# Altium footprint library Package_DFN_QFN_SON.PcbLib: 78 footprints (part 4 of 5)
Each footprint in its own frame and in the unit in brackets; x right, y up, seen from the top. Pads: shape width x height; smd on the part's side, far side on the other; paste and mask are expansions set on the pad; w line width, h text height; cw(c..) or ccw(c..) is an arc to the next point about the centre after c.
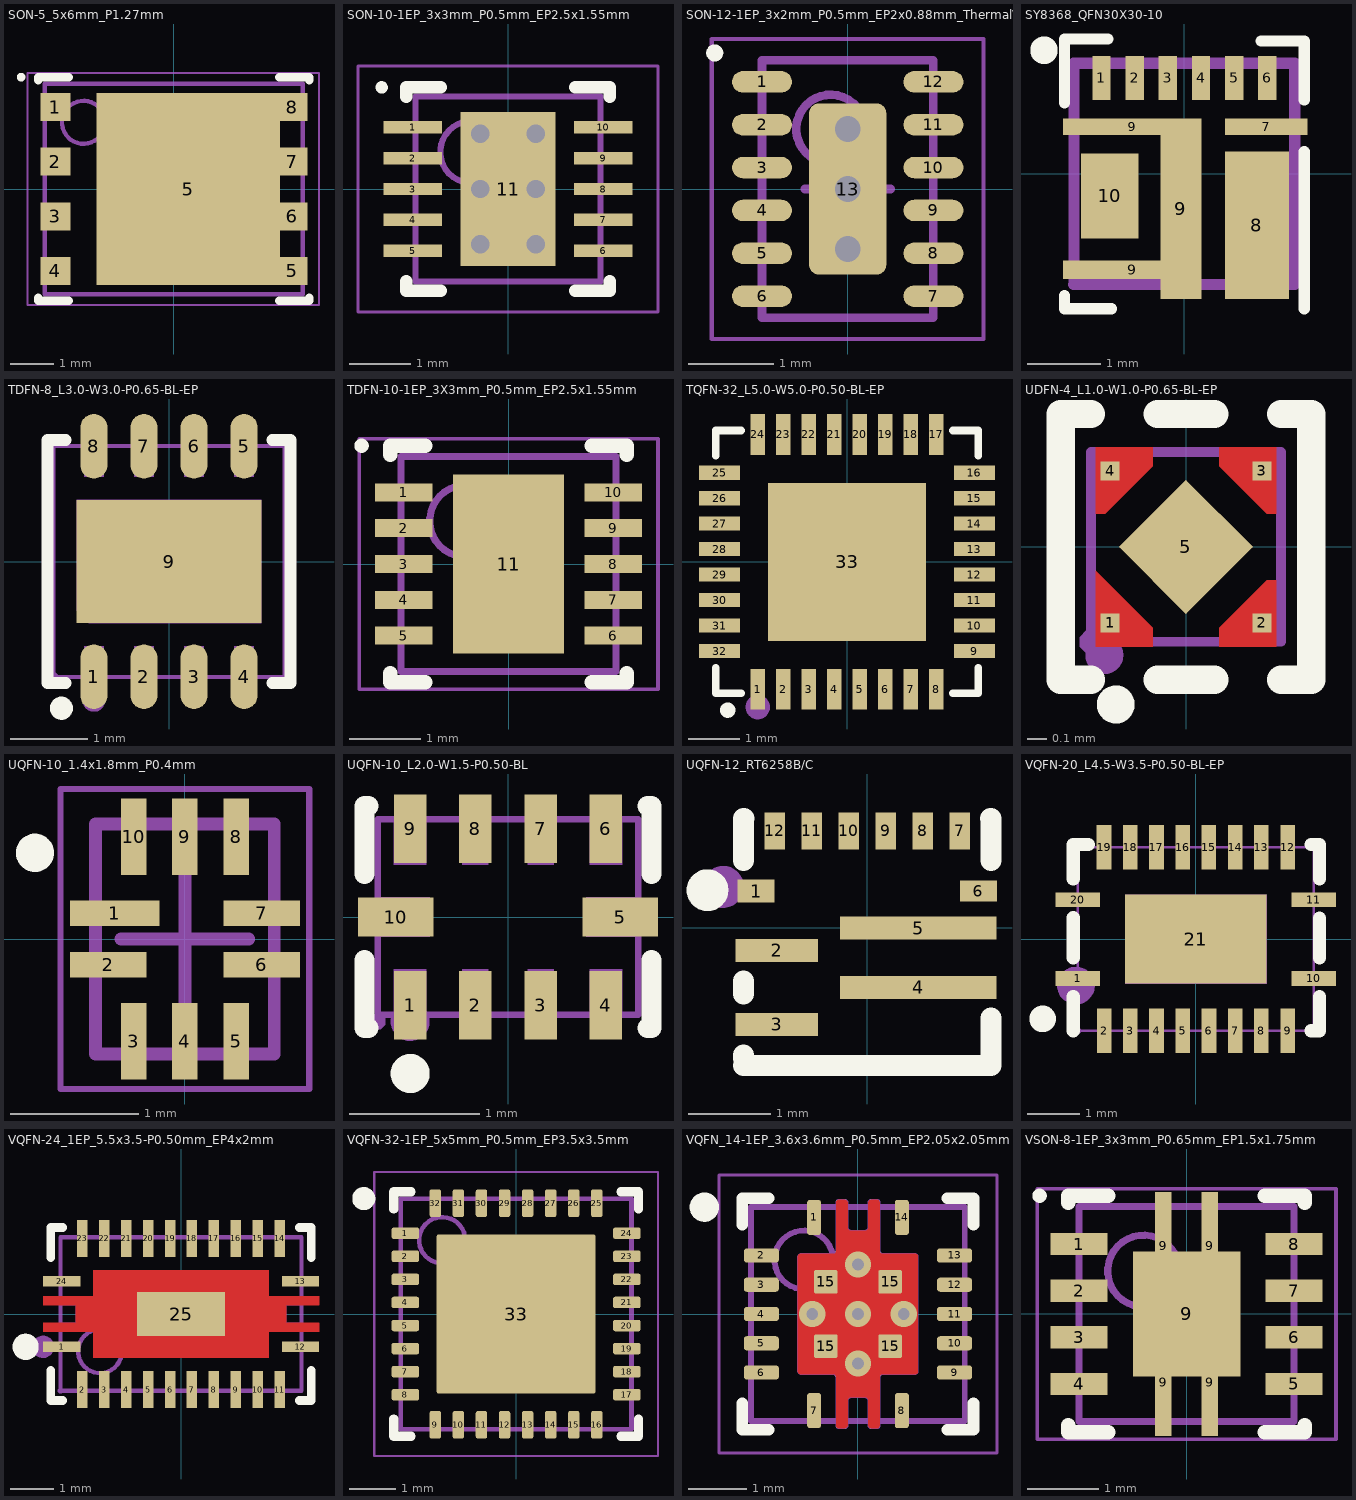
[diagram p3: the footprints below, top view; thin cyan lines are the x and y axes]

## SON-5_5x6mm_P1.27mm [mm] "SON, 8-Leads, Body 4.90x6.00mm, Pitch 1.27mm, Thermal Pad 2.50x1.55mm, IPC Medium Density"
height 1
pads (9):
  rect 0.7x0.65 smd: 1(-2.752,1.905) 2(-2.752,0.635) 3(-2.752,-0.635) 4(-2.752,-1.905) 5(2.752,-1.905) 6(2.752,-0.635) 7(2.752,0.635) 8(2.752,1.905)
  rect 4.27x4.46 smd: 5(0.337,0)
Top Overlay:
  circle w0.1: c-3.55,2.6 r0.05
  lines w0.2: -3.15,-2.53 -3.15,-2.6 -2.45,-2.6 ; -3.15,2.53 -3.15,2.6 -2.45,2.6 ; 2.45,-2.6 3.15,-2.6 3.15,-2.53 ; 2.45,2.6 3.15,2.6 3.15,2.53
Mechanical 13:
  circle w0.1: c-2.1,1.55 r0.5
  lines w0.1: -3,-2.45 3,-2.45 3,2.45 -3,2.45 -3,-2.45
Mechanical 15:
  lines w0.05: -3.4,-2.7 3.375,-2.7 3.375,2.7 -3.4,2.7 -3.4,-2.7
  lines w0.1: -0.5,0 0.5,0 ; 0,-0.5 0,0.5
3D body "SON127P600X100_HS-9N.step": height 1, standoff 0, extent -3.001,-2.45 3.001,2.45

## SON-10-1EP_3x3mm_P0.5mm_EP2.5x1.55mm [mm] "SON, 10-Leads, Body 3.00x3.00mm, Pitch 0.50mm, Thermal Pad 2.50x1.55mm, IPC Low Density"
height 0.75
pads (11):
  rect 0.95x0.2 smd: 1(-1.55,1) 2(-1.55,0.5) 3(-1.55,0) 4(-1.55,-0.5) 5(-1.55,-1) 6(1.55,-1) 7(1.55,-0.5) 8(1.55,0) 9(1.55,0.5) 10(1.55,1)
  rect 1.55x2.5 smd: 11(0,0)
via -0.45,0 diameter 0.5 hole 0.3
via -0.45,-0.9 diameter 0.5 hole 0.3
via 0.45,0 diameter 0.5 hole 0.3
via 0.45,-0.9 diameter 0.5 hole 0.3
via -0.45,0.9 diameter 0.5 hole 0.3
via 0.45,0.9 diameter 0.5 hole 0.3
Top Overlay:
  circle w0.1: c-2.05,1.65 r0.05
  lines w0.2: -1.65,-1.5 -1.65,-1.65 -1.09,-1.65 ; -1.65,1.5 -1.65,1.65 -1.09,1.65 ; 1.09,-1.65 1.65,-1.65 1.65,-1.5 ; 1.09,1.65 1.65,1.65 1.65,1.5
Mechanical 13:
  circle w0.1: c-0.6,0.6 r0.5
  lines w0.1: -1.5,-1.5 1.5,-1.5 1.5,1.5 -1.5,1.5 -1.5,-1.5
Mechanical 15:
  lines w0.05: -2.435,-2 2.435,-2 2.435,2 -2.435,2 -2.435,-2
  lines w0.1: -0.5,0 0.5,0 ; 0,-0.5 0,0.5
3D body "SON50P300X75_HS-11M.step": height 0.75, standoff 0, extent -1.501,-1.5 1.501,1.5

## SON-12-1EP_3x2mm_P0.5mm_EP2x0.88mm_ThermalVias [mm] "SON, 12-Leads, Body 3.00x2.00mm, Pitch 0.50mm, Thermal Pad 2.00x0.88mm, IPC Medium Density"
height 0.8
pads (13):
  oval 0.7x0.25 smd mask+0.07: 1(-1,1.25) 2(-1,0.75) 3(-1,0.25) 4(-1,-0.25) 5(-1,-0.75) 6(-1,-1.25) 7(1,-1.25) 8(1,-0.75) 9(1,-0.25) 10(1,0.25) 11(1,0.75) 12(1,1.25)
  rrect25% 0.9x2 smd mask+0.07: 13(0,0)
via 0,-0.7 diameter 0.5 hole 0.3
via 0,0.7 diameter 0.5 hole 0.3
via 0,0 diameter 0.5 hole 0.3
Top Overlay:
  circle w0.1: c-1.552,1.587 r0.05
Mechanical 13:
  circle w0.1: c-0.2,0.7 r0.4
  lines w0.1: -1,-1.5 1,-1.5 1,1.5 -1,1.5 -1,-1.5
Mechanical 15:
  lines w0.05: -1.585,-1.75 1.585,-1.75 1.585,1.75 -1.585,1.75 -1.585,-1.75
  lines w0.1: -0.5,0 0.5,0 ; 0,-0.5 0,0.5
3D body "SON50P200X80_HS-13N.step": height 0.8, standoff 0, extent -1,-1.5 1,1.5

## SY8368_QFN30X30-10 [mm]
pads (12):
  rect 0.25x0.6 smd: 1(-1.125,1.3) 2(-0.675,1.3) 3(-0.225,1.3) 4(0.225,1.3) 5(0.675,1.3) 6(1.125,1.3)
  rect 1.12x0.225 smd: 7(1.11,0.638)
  rect 0.87x2 smd: 8(0.983,-0.7)
  rect 1.88x0.25 smd: 9(-0.71,-1.3)
  rect 1.88x0.225 smd: 9(-0.71,0.638)
  rect 0.555x2.45 smd: 9(-0.047,-0.475)
  rect 0.775x1.15 smd: 10(-1.012,-0.3)
Top Overlay:
  circle w0.3: c-1.905,1.676 r0.036
  lines w0.152: -1.626,-1.651 -1.626,-1.829 -0.991,-1.829 ; -1.626,0.965 -1.626,1.803 ; -1.626,1.829 -1.041,1.829 ; 1.041,1.803 1.626,1.803 1.626,1 ; 1.626,-1.829 1.626,0.3
Mechanical 7:
  lines w0.152: -1.5,-1.5 1.5,-1.5 ; -1.5,1.5 1.5,1.5 ; -1.497,-1.5 -1.497,1.5 ; 1.497,-1.5 1.497,1.5
3D body: height 0.6, standoff 0, extent -1.5,-1.5 1.5,1.5

## TDFN-8_L3.0-W3.0-P0.65-BL-EP [mm]
pads (9):
  oval 0.35x0.84 smd paste+0 mask+0.051: 1(-0.975,-1.495) 2(-0.325,-1.495) 3(0.325,-1.495) 4(0.975,-1.495) 5(0.975,1.495) 6(0.325,1.495) 7(-0.325,1.495) 8(-0.975,1.495)
  rect 2.4x1.6 smd paste+0 mask+0.051: 9(0,0)
Top Overlay:
  circle w0.15: c-1.397,-1.905 r0.075
  lines w0.152: -1.341,-1.576 -1.576,-1.576 -1.576,1.576 -1.341,1.576 ; 1.341,-1.576 1.576,-1.576 1.576,1.576 1.341,1.576
Mechanical 6:
  circle w0.15: c-0.975,-1.8 r0.075
Mechanical 15:
  region: -1.44,-1.5 -1.44,-1.475 -1.475,-1.44 -1.525,-1.44 -1.56,-1.475 -1.56,-1.5 -1.56,-1.525 -1.525,-1.56 -1.475,-1.56 -1.44,-1.525 -1.44,-1.5
  region: -1.1,-1.5 -1.1,-1.1 -0.85,-1.1 -0.85,-1.5
  region: -0.45,-1.5 -0.45,-1.1 -0.2,-1.1 -0.2,-1.5
  region: 0.2,-1.5 0.2,-1.1 0.45,-1.1 0.45,-1.5
  region: 0.85,-1.5 0.85,-1.1 1.1,-1.1 1.1,-1.5
  region: 0.85,1.5 0.85,1.1 1.1,1.1 1.1,1.5
  region: 0.2,1.5 0.2,1.1 0.45,1.1 0.45,1.5
  region: -0.45,1.5 -0.45,1.1 -0.2,1.1 -0.2,1.5
  region: -1.1,1.5 -1.1,1.1 -0.85,1.1 -0.85,1.5
  region: -1.2,-0.64 -1.2,0.8 1.2,0.8 1.2,-0.8 -1.04,-0.8
  lines w0.051: -1.5,-1.5 -1.5,1.5 1.5,1.5 1.5,-1.5 -1.5,-1.5
3D body "U1.stp": height 0.81, standoff 0, extent -1.5,-1.51 1.5,1.51

## TDFN-10-1EP_3X3mm_P0.5mm_EP2.5x1.55mm [mm] "SON, 10-Leads, Body 3.00x3.00mm, Pitch 0.50mm, Thermal Pad 2.50x1.55mm, IPC Medium Density"
height 0.8
pads (11):
  rect 0.8x0.25 smd: 1(-1.46,1) 2(-1.46,0.5) 3(-1.46,0) 4(-1.46,-0.5) 5(-1.46,-1) 6(1.46,-1) 7(1.46,-0.5) 8(1.46,0) 9(1.46,0.5) 10(1.46,1)
  rect 1.55x2.5 smd: 11(0,0)
Top Overlay:
  circle w0.1: c-2.05,1.65 r0.05
  lines w0.2: -1.65,-1.525 -1.65,-1.65 -1.16,-1.65 ; -1.65,1.525 -1.65,1.65 -1.16,1.65 ; 1.16,-1.65 1.65,-1.65 1.65,-1.525 ; 1.16,1.65 1.65,1.65 1.65,1.525
Mechanical 13:
  circle w0.1: c-0.6,0.6 r0.5
  lines w0.1: -1.5,-1.5 1.5,-1.5 1.5,1.5 -1.5,1.5 -1.5,-1.5
Mechanical 15:
  lines w0.05: -2.085,-1.75 2.085,-1.75 2.085,1.75 -2.085,1.75 -2.085,-1.75
  lines w0.1: -0.5,0 0.5,0 ; 0,-0.5 0,0.5
3D body "SON50P300X80_HS-11N.step": height 0.8, standoff 0, extent -1.58,-1.5 1.58,1.5

## TQFN-32_L5.0-W5.0-P0.50-BL-EP [mm]
pads (33):
  rect 0.28x0.8 smd: 1(-1.75,-2.5) 2(-1.25,-2.5) 3(-0.75,-2.5) 4(-0.25,-2.5) 5(0.25,-2.5) 6(0.75,-2.5) 7(1.25,-2.5) 8(1.75,-2.5) 17(1.75,2.5) 18(1.25,2.5) 19(0.75,2.5) 20(0.25,2.5) 21(-0.25,2.5) 22(-0.75,2.5) 23(-1.25,2.5) 24(-1.75,2.5)
  rect 0.8x0.28 smd: 9(2.5,-1.75) 10(2.5,-1.25) 11(2.5,-0.75) 12(2.5,-0.25) 13(2.5,0.25) 14(2.5,0.75) 15(2.5,1.25) 16(2.5,1.75) 25(-2.5,1.75) 26(-2.5,1.25) 27(-2.5,0.75) 28(-2.5,0.25) 29(-2.5,-0.25) 30(-2.5,-0.75) 31(-2.5,-1.25) 32(-2.5,-1.75)
  rect 3.1x3.1 smd: 33(0,0)
Top Overlay:
  circle w0.15: c-2.34,-2.91 r0.075
  lines w0.152: -2.576,-2.08 -2.576,-2.576 -2.08,-2.576 ; -2.576,2.08 -2.576,2.576 -2.08,2.576 ; 2.08,-2.576 2.576,-2.576 2.576,-2.08 ; 2.08,2.576 2.576,2.576 2.576,2.08
Mechanical 15:
  circle w0.24: c-1.75,-2.85 r0.12

## UDFN-4_L1.0-W1.0-P0.65-BL-EP [mm]
pads (5):
  rect 0.1x0.1 smd mask+0: 1(-0.4,-0.4) 2(0.4,-0.4) 3(0.4,0.4) 4(-0.4,0.4)
  rect 0.5x0.5 smd rot 45 paste+0 mask+0.051: 5(0,0)
Top Layer:
  region: -0.175,-0.525 -0.475,-0.525 -0.475,-0.125 -0.175,-0.425
  region: 0.175,0.525 0.475,0.525 0.475,0.175 0.425,0.175 0.175,0.425
  region: -0.475,0.175 -0.475,0.525 -0.175,0.525 -0.175,0.475 -0.175,0.425 -0.425,0.175
  region: 0.475,-0.175 0.475,-0.525 0.175,-0.525 0.175,-0.425 0.425,-0.175
Top Overlay:
  circle w0.1: c-0.37,-0.83 r0.05
  lines w0.15: -0.501,-0.7 -0.66,-0.7 -0.66,0.7 -0.501,0.7 ; -0.149,-0.7 0.149,-0.7 ; -0.149,0.7 0.149,0.7 ; 0.501,-0.7 0.66,-0.7 0.66,0.7 0.501,0.7
Top Paste:
  region: 0.175,0.525 0.475,0.525 0.475,0.175 0.425,0.175 0.175,0.425
  region: 0.475,-0.175 0.475,-0.525 0.175,-0.525 0.175,-0.425 0.425,-0.175
  region: -0.175,-0.525 -0.475,-0.525 -0.475,-0.125 -0.175,-0.425
  region: -0.475,0.175 -0.475,0.525 -0.175,0.525 -0.175,0.475 -0.175,0.425 -0.425,0.175
Mechanical 6:
  circle w0.1: c-0.43,-0.57 r0.05
Mechanical 15:
  region: -0.44,-0.5 -0.44,-0.475 -0.475,-0.44 -0.525,-0.44 -0.56,-0.475 -0.56,-0.5 -0.56,-0.525 -0.525,-0.56 -0.475,-0.56 -0.44,-0.525 -0.44,-0.5
  region: -0.34,0 0,0.34 0.339,0 0,-0.339
  region: 0.2,0.5 0.45,0.5 0.45,0.28 0.36,0.28 0.2,0.43
  region: 0.2,-0.5 0.45,-0.5 0.45,-0.28 0.36,-0.28 0.2,-0.43
  region: -0.44,0.25 -0.44,0.5 -0.22,0.5 -0.22,0.41 -0.37,0.25
  region: -0.2,-0.5 -0.45,-0.5 -0.45,-0.28 -0.36,-0.28 -0.2,-0.43
  lines w0.051: -0.5,-0.5 -0.5,0.5 0.5,0.5 0.5,-0.5 -0.5,-0.5
3D body "U1.stp": height 0.61, standoff 0, extent -0.51,-0.51 0.51,0.51

## UQFN-10_1.4x1.8mm_P0.4mm [mm] "PQFN, 10-Leads, Body 1.40x1.80mm, Pitch 0.40mm, IPC Medium Density"
height 0.55
pads (10):
  rect 0.7x0.2 smd: 1(-0.55,0.2)
  rect 0.6x0.2 smd: 2(-0.6,-0.2) 6(0.6,-0.2) 7(0.6,0.2)
  rect 0.2x0.6 smd: 3(-0.4,-0.8) 4(0,-0.8) 5(0.4,-0.8) 8(0.4,0.8) 9(0,0.8) 10(-0.4,0.8)
Top Overlay:
  circle w0.2: c-1.175,0.675 r0.05
Mechanical 13:
  lines w0.1: -0.7,-0.9 0.7,-0.9 0.7,0.9 -0.7,0.9 -0.7,-0.9
Mechanical 15:
  lines w0.05: -0.975,-1.175 0.975,-1.175 0.975,1.175 -0.975,1.175 -0.975,-1.175
  lines w0.1: -0.5,0 0.5,0 ; 0,-0.5 0,0.5
3D body "PQFN40P140X180X55-10N.step": height 0.55, standoff 0, extent -0.7,-0.9 0.7,0.9

## UQFN-10_L2.0-W1.5-P0.50-BL [mm]
pads (10):
  rect 0.25x0.525 smd paste+0 mask+0.051: 1(-0.75,-0.675) 2(-0.25,-0.675) 3(0.25,-0.675) 4(0.75,-0.675) 6(0.75,0.675) 7(0.25,0.675) 8(-0.25,0.675) 9(-0.75,0.675)
  rect 0.58x0.3 smd paste+0 mask+0.051: 5(0.86,0) 10(-0.86,0)
Top Overlay:
  circle w0.15: c-0.75,-1.2 r0.075
  lines w0.152: -1.1,-0.33 -1.1,-0.85 -1.07,-0.85 ; -1.1,0.33 -1.1,0.85 -1.07,0.85 ; 1.07,-0.85 1.1,-0.85 1.1,-0.33 ; 1.07,0.85 1.1,0.85 1.1,0.33
Mechanical 6:
  circle w0.15: c-0.75,-0.8 r0.075
Mechanical 15:
  region: -0.94,-0.8 -0.94,-0.775 -0.975,-0.74 -1.025,-0.74 -1.06,-0.775 -1.06,-0.8 -1.06,-0.825 -1.025,-0.86 -0.975,-0.86 -0.94,-0.825 -0.94,-0.8
  region: -0.35,0.75 -0.15,0.75 -0.15,0.4 -0.35,0.4
  region: 0.15,0.75 0.35,0.75 0.35,0.4 0.15,0.4
  region: 0.15,-0.4 0.35,-0.4 0.35,-0.75 0.15,-0.75
  region: -0.35,-0.4 -0.15,-0.4 -0.15,-0.75 -0.35,-0.75
  region: 0.625,-0.4 0.875,-0.4 0.875,-0.75 0.625,-0.75
  region: -0.875,-0.4 -0.625,-0.4 -0.625,-0.75 -0.875,-0.75
  region: -0.875,0.75 -0.625,0.75 -0.625,0.4 -0.875,0.4
  region: 0.625,0.75 0.875,0.75 0.875,0.4 0.625,0.4
  region: 0.6,0.15 1,0.15 1,-0.15 0.6,-0.15
  region: -1,0.15 -0.6,0.15 -0.6,-0.15 -1,-0.15
  lines w0.051: -1,-0.75 -1,0.75 1,0.75 1,-0.75 -1,-0.75
3D body "U1.stp": height 0.62, standoff 0, extent -1.01,-0.76 1.01,0.76

## UQFN-12_RT6258B/C [mm]
pads (12):
  rect 0.45x0.28 smd: 1(-1.35,0.445)
  rect 1x0.28 smd: 2(-1.1,-0.275) 3(-1.1,-1.175)
  rect 1.9x0.28 smd: 4(0.62,-0.725) 5(0.62,-0.005)
  rect 0.45x0.25 smd: 6(1.35,0.445)
  rect 0.25x0.45 smd: 7(1.125,1.175) 8(0.675,1.175) 9(0.225,1.175) 10(-0.225,1.175) 11(-0.675,1.175) 12(-1.125,1.175)
Top Overlay:
  circle w0.254: c-1.94,0.455 r0.127
  lines w0.254: -1.5,-1.675 1.5,-1.675 1.5,-1.096 ; -1.5,-1.588 -1.5,-1.546 ; -1.5,-0.804 -1.5,-0.646 ; -1.5,0.816 -1.5,1.325 -1.496,1.325 ; 1.496,1.325 1.5,1.325 1.5,0.816
Mechanical 15:
  circle w0.254: c-1.75,0.495 r0.127
3D body "11111.stp": height 0.55, standoff 0, extent -1.5,-1.68 1.5,1.32

## VQFN-20_L4.5-W3.5-P0.50-BL-EP [mm]
pads (21):
  rect 0.85x0.28 smd paste+0 mask+0.051: 1(-2.25,-0.752) 10(2.25,-0.752) 11(2.25,0.748) 20(-2.25,0.75)
  rect 0.28x0.85 smd paste+0 mask+0.051: 2(-1.749,-1.75) 3(-1.248,-1.75) 4(-0.749,-1.75) 5(-0.248,-1.75) 6(0.251,-1.75) 7(0.752,-1.75) 8(1.251,-1.75) 9(1.752,-1.75) 12(1.752,1.75) 13(1.251,1.75) 14(0.75,1.748) 15(0.25,1.748) 16(-0.25,1.748) 17(-0.75,1.748) 18(-1.25,1.748) 19(-1.75,1.748)
  rect 2.7x1.7 smd paste+0 mask+0.051: 21(0,-0.002)
Top Overlay:
  circle w0.254: c-2.921,-1.524 r0.127
  lines w0.254: -2.338,-1.753 -2.338,-1.098 ; -2.338,-0.356 -2.338,0.404 ; -2.338,1.146 -2.338,1.803 -2.046,1.803 ; 2.198,-1.753 2.361,-1.753 2.361,-1.098 ; 2.198,1.803 2.361,1.803 2.361,1.144 ; 2.361,-0.356 2.361,0.402
Mechanical 6:
  circle w0.36: c-2.286,-0.889 r0.18
Mechanical 15:
  region: -2.19,-1.75 -2.19,-1.725 -2.225,-1.69 -2.275,-1.69 -2.31,-1.725 -2.31,-1.75 -2.31,-1.775 -2.275,-1.81 -2.225,-1.81 -2.19,-1.775 -2.19,-1.75
  region: -1.35,-0.852 -1.35,0.848 1.35,0.848 1.35,-0.852
  region: -1.629,-1.75 -1.869,-1.75 -1.869,-1.35 -1.629,-1.35
  region: -1.128,-1.75 -1.368,-1.75 -1.368,-1.35 -1.128,-1.35
  region: -0.629,-1.75 -0.869,-1.75 -0.869,-1.35 -0.629,-1.35
  region: -0.128,-1.75 -0.368,-1.75 -0.368,-1.35 -0.128,-1.35
  region: 0.371,-1.75 0.131,-1.75 0.131,-1.35 0.371,-1.35
  region: 0.872,-1.75 0.632,-1.75 0.632,-1.35 0.872,-1.35
  region: 1.371,-1.75 1.131,-1.75 1.131,-1.35 1.371,-1.35
  region: 1.872,-1.75 1.632,-1.75 1.632,-1.35 1.872,-1.35
  region: -1.872,1.746 -1.632,1.746 -1.632,1.346 -1.872,1.346
  region: -1.371,1.746 -1.131,1.746 -1.131,1.346 -1.371,1.346
  region: -0.872,1.746 -0.632,1.746 -0.632,1.346 -0.872,1.346
  region: -0.371,1.746 -0.131,1.746 -0.131,1.346 -0.371,1.346
  region: 0.128,1.746 0.368,1.746 0.368,1.346 0.128,1.346
  region: 0.629,1.746 0.869,1.746 0.869,1.346 0.629,1.346
  region: 1.128,1.746 1.368,1.746 1.368,1.346 1.128,1.346
  region: 1.629,1.746 1.869,1.746 1.869,1.346 1.629,1.346
  region: -2.248,0.629 -2.248,0.869 -1.848,0.869 -1.848,0.629
  region: -2.248,-0.874 -2.248,-0.634 -1.848,-0.634 -1.848,-0.874
  region: 2.248,0.87 2.248,0.63 1.848,0.63 1.848,0.87
  region: 2.248,-0.631 2.248,-0.871 1.848,-0.871 1.848,-0.631
  lines w0.051: -2.25,-1.75 2.25,-1.75 2.25,1.75 -2.25,1.75 -2.25,-1.75
3D body "U1.stp": height 1, standoff -0.02, extent -2.235,-1.76 2.285,1.76

## VQFN-24_1EP_5.5x3.5-P0.50mm_EP4x2mm [mm]
pads (25):
  rect 0.85x0.24 smd mask+0.051: 1(-2.725,-0.75) 12(2.725,-0.75) 13(2.725,0.75) 24(-2.725,0.75)
  rect 0.24x0.85 smd mask+0.051: 2(-2.25,-1.725) 3(-1.75,-1.725) 4(-1.25,-1.725) 5(-0.75,-1.725) 6(-0.25,-1.725) 7(0.25,-1.725) 8(0.75,-1.725) 9(1.25,-1.725) 10(1.75,-1.725) 11(2.25,-1.725) 14(2.25,1.725) 15(1.75,1.725) 16(1.25,1.725) 17(0.75,1.725) 18(0.25,1.725) 19(-0.25,1.725) 20(-0.75,1.725) 21(-1.25,1.725) 22(-1.75,1.725) 23(-2.25,1.725)
  rect 2x1 smd paste-100: 25(0,0)
Top Layer:
  region: -3.15,0.4 -3.15,0.2 -2.4,0.2 -2.4,-0.2 -3.15,-0.2 -3.15,-0.4 -2,-0.4 -2,-1 2,-1 2,-0.4 3.15,-0.4 3.15,-0.2 2.4,-0.2 2.4,0.2 3.15,0.2 3.15,0.4 2,0.4 2,1 -2,1 -2,0.4
Top Overlay:
  lines w0.2: -2.975,-1.29 -2.975,-1.975 -2.7,-1.975 ; -2.975,1.29 -2.975,1.975 -2.7,1.975 ; 2.7,-1.975 2.975,-1.975 2.975,-1.29 ; 2.7,1.975 2.975,1.975 2.975,1.29
  lines w0.3: -3.55,-0.6 ccw(c-3.549,-0.75) -3.547,-0.6
Top Paste:
  region: 3.15,-0.4 3.15,-0.2 2.4,-0.2 2.4,0.2 3.15,0.2 3.15,0.4 2.125,0.4 2.125,-0.4
  region: -3.15,-0.4 -3.15,-0.2 -2.4,-0.2 -2.4,0.2 -3.15,0.2 -3.15,0.4 -2.125,0.4 -2.125,-0.4
  region: -0.145,0.145 -1.465,0.145 -1.465,0.965 -0.145,0.965
  region: 0.155,0.965 1.475,0.965 1.475,0.145 0.155,0.145
  region: 0.155,-0.155 1.475,-0.155 1.475,-0.975 0.155,-0.975
  region: -0.145,-0.975 -1.465,-0.975 -1.465,-0.155 -0.145,-0.155
Mechanical 6:
  circle w0.254: c-3.15,-0.75 r0.127
Mechanical 13:
  circle w0.1: c-1.85,-0.85 r0.5
  lines w0.1: -2.75,-1.75 2.75,-1.75 2.75,1.75 -2.75,1.75 -2.75,-1.75
Mechanical 15:
  drawing of 30 lines, arcs and shapes, not listed
3D body "QFN50P350X550X100_HS-29N.step": height 1, standoff 0, extent -2.8,-1.8 2.8,1.8

## VQFN-32-1EP_5x5mm_P0.5mm_EP3.5x3.5mm [mm] "QFN, 32-Leads, Body 5.00x5.00mm, Pitch 0.50mm, Thermal Pad 3.50x3.50mm, IPC Medium Density"
height 1
pads (33):
  rrect40% 0.6x0.25 smd mask+0.07: 1(-2.4,1.75) 2(-2.4,1.25) 3(-2.4,0.75) 4(-2.4,0.25) 5(-2.4,-0.25) 6(-2.4,-0.75) 7(-2.4,-1.25) 8(-2.4,-1.75) 17(2.4,-1.75) 18(2.4,-1.25) 19(2.4,-0.75) 20(2.4,-0.25) 21(2.4,0.25) 22(2.4,0.75) 23(2.4,1.25) 24(2.4,1.75)
  rrect40% 0.25x0.6 smd mask+0.07: 9(-1.75,-2.4) 10(-1.25,-2.4) 11(-0.75,-2.4) 12(-0.25,-2.4) 13(0.25,-2.4) 14(0.75,-2.4) 15(1.25,-2.4) 16(1.75,-2.4) 25(1.75,2.4) 26(1.25,2.4) 27(0.75,2.4) 28(0.25,2.4) 29(-0.25,2.4) 30(-0.75,2.4) 31(-1.25,2.4) 32(-1.75,2.4)
  rrect3% 3.45x3.45 smd paste-3 mask+0.07: 33(0,0)
Top Overlay:
  circle w0.25: c-3.3,2.5 r0.125
  lines w0.2: -2.65,-2.275 -2.65,-2.65 -2.275,-2.65 ; -2.65,2.275 -2.65,2.65 -2.275,2.65 ; 2.275,-2.65 2.65,-2.65 2.65,-2.275 ; 2.275,2.65 2.65,2.65 2.65,2.275
Top Paste:
  region: 0.15,-0.1 0.14,-0.1 0.122,-0.108 0.108,-0.122 0.1,-0.14 0.1,-0.15 0.1,-1.54 0.1,-1.55 0.108,-1.568 0.122,-1.582 0.14,-1.59 0.15,-1.59 1.54,-1.59 1.55,-1.59 1.568,-1.582 1.582,-1.568 1.59,-1.55 1.59,-1.54 1.59,-0.15 1.59,-0.14 1.582,-0.122 1.568,-0.108 1.55,-0.1 1.54,-0.1
  region: -0.15,-0.1 -0.14,-0.1 -0.122,-0.108 -0.108,-0.122 -0.1,-0.14 -0.1,-0.15 -0.1,-1.54 -0.1,-1.55 -0.108,-1.568 -0.122,-1.582 -0.14,-1.59 -0.15,-1.59 -1.54,-1.59 -1.55,-1.59 -1.568,-1.582 -1.582,-1.568 -1.59,-1.55 -1.59,-1.54 -1.59,-0.15 -1.59,-0.14 -1.582,-0.122 -1.568,-0.108 -1.55,-0.1 -1.54,-0.1
  region: -0.15,0.1 -0.14,0.1 -0.122,0.108 -0.108,0.122 -0.1,0.14 -0.1,0.15 -0.1,1.54 -0.1,1.55 -0.108,1.568 -0.122,1.582 -0.14,1.59 -0.15,1.59 -1.54,1.59 -1.55,1.59 -1.568,1.582 -1.582,1.568 -1.59,1.55 -1.59,1.54 -1.59,0.15 -1.59,0.14 -1.582,0.122 -1.568,0.108 -1.55,0.1 -1.54,0.1
  region: 0.15,0.1 0.14,0.1 0.122,0.108 0.108,0.122 0.1,0.14 0.1,0.15 0.1,1.54 0.1,1.55 0.108,1.568 0.122,1.582 0.14,1.59 0.15,1.59 1.54,1.59 1.55,1.59 1.568,1.582 1.582,1.568 1.59,1.55 1.59,1.54 1.59,0.15 1.59,0.14 1.582,0.122 1.568,0.108 1.55,0.1 1.54,0.1
Mechanical 13:
  circle w0.1: c-1.6,1.6 r0.5
  lines w0.1: -2.5,-2.5 -2.5,2.5 2.5,2.5 2.5,-2.5 -2.5,-2.5
Mechanical 15:
  lines w0.05: -3.075,-3.075 -3.075,3.075 3.075,3.075 3.075,-3.075 -3.075,-3.075
  lines w0.1: -0.5,0 0.5,0 ; 0,-0.5 0,0.5
3D body "QFN50P500X500X100_HS-33N.step": height 1, standoff 0, extent -2.55,-2.55 2.55,2.55

## VQFN_14-1EP_3.6x3.6mm_P0.5mm_EP2.05x2.05mm [mm] "QFN, 20-Leads, Body 3.50x3.50mm, Pitch 0.50mm, Thermal Pad 2.05x2.00mm, IPC Medium Density"
height 0.9
pads (18):
  rrect42% 0.24x0.6 smd mask+0.07: 1(-0.75,1.65)
  rrect41% 0.6x0.24 smd mask+0.07: 2(-1.65,1) 3(-1.65,0.5) 4(-1.65,0) 5(-1.65,-0.5) 6(-1.65,-1) 9(1.65,-1) 10(1.65,-0.5) 11(1.65,0) 12(1.65,0.5) 13(1.65,1)
  rrect41% 0.24x0.6 smd mask+0.07: 7(-0.75,-1.65) 8(0.75,-1.65) 14(0.75,1.65)
  rrect12% 0.4x0.4 smd: 15(-0.55,-0.55) 15(-0.55,0.55) 15(0.55,-0.55) 15(0.55,0.55)
via -0.78,0 diameter 0.45 hole 0.2
via 0.78,0 diameter 0.45 hole 0.2
via 0,-0.845 diameter 0.45 hole 0.2
via 0,0 diameter 0.45 hole 0.2
via 0,0.845 diameter 0.45 hole 0.2
Top Layer:
  region: 154 vertices and 0 holes, not listed, extent -1.025,-1.95 1.025,1.95
Top Overlay:
  circle w0.25: c-2.625,1.825 r0.125
  lines w0.2: -1.975,-1.525 -1.975,-1.975 -1.525,-1.975 ; -1.975,1.525 -1.975,1.975 -1.525,1.975 ; 1.525,-1.975 1.975,-1.975 1.975,-1.525 ; 1.525,1.975 1.975,1.975 1.975,1.525
Top Paste:
  drawing of 6 lines, arcs and shapes, not listed
Mechanical 7:
  lines w0.025: -0.375,-1.9 ccw(c-0.325,-1.9) -0.325,-1.95 -0.225,-1.95 ccw(c-0.225,-1.9) -0.175,-1.9 ; -0.375,-1.9 -0.375,-1.9 ; -0.375,-1.9 -0.375,-1.27 cw(c-0.325,-1.27) -0.325,-1.22 0.325,-1.22 cw(c0.325,-1.27) 0.375,-1.27 0.375,-1.9 cw(c0.325,-1.9) 0.325,-1.95 0.225,-1.95 cw(c0.225,-1.9) 0.175,-1.9 ; -0.375,1.9 cw(c-0.325,1.9) -0.325,1.95 -0.225,1.95 cw(c-0.225,1.9) -0.175,1.9 ; -0.375,1.9 -0.375,1.27 ccw(c-0.325,1.27) -0.325,1.22 0.325,1.22 ccw(c0.325,1.27) 0.375,1.27 0.375,1.9 ccw(c0.325,1.9) 0.325,1.95 0.225,1.95 ccw(c0.225,1.9) 0.175,1.9 ; -0.375,1.9 -0.375,1.9 ; -0.175,-1.9 -0.175,-1.475 ; -0.175,-1.9 -0.175,-1.9 ; -0.175,-1.475 cw(c-0.125,-1.475) -0.125,-1.425 0,-1.425 0.125,-1.425 cw(c0.125,-1.475) 0.175,-1.475 ; -0.175,-1.475 -0.175,-1.475 ; -0.175,1.475 ccw(c-0.125,1.475) -0.125,1.425 0,1.425 0.125,1.425 ccw(c0.125,1.475) 0.175,1.475 ; -0.175,1.475 -0.175,1.475 ; -0.175,1.475 -0.175,1.9 ; -0.175,1.9 -0.175,1.9 ; 0.175,-1.9 0.175,-1.9 ; 0.175,-1.9 0.175,-1.475 ; 0.175,-1.475 0.175,-1.475 ; 0.175,1.475 0.175,1.9 ; 0.175,1.475 0.175,1.475 ; 0.175,1.9 0.175,1.9 ; -1.025,-0.975 ccw(c-0.975,-0.975) -0.975,-1.025 -0.155,-1.025 ccw(c-0.155,-0.975) -0.105,-0.975 -0.105,-0.155 ccw(c-0.155,-0.155) -0.155,-0.105 -0.975,-0.105 ccw(c-0.975,-0.155) -1.025,-0.155 -1.025,-0.975 ; -1.025,0.155 ccw(c-0.975,0.155) -0.975,0.105 -0.155,0.105 ccw(c-0.155,0.155) -0.105,0.155 -0.105,0.975 ccw(c-0.155,0.975) -0.155,1.025 -0.975,1.025 ccw(c-0.975,0.975) -1.025,0.975 -1.025,0.155 ; 0.105,-0.975 ccw(c0.155,-0.975) 0.155,-1.025 0.975,-1.025 ccw(c0.975,-0.975) 1.025,-0.975 1.025,-0.155 ccw(c0.975,-0.155) 0.975,-0.105 0.155,-0.105 ccw(c0.155,-0.155) 0.105,-0.155 0.105,-0.975 ; 0.105,0.155 ccw(c0.155,0.155) 0.155,0.105 0.975,0.105 ccw(c0.975,0.155) 1.025,0.155 1.025,0.975 ccw(c0.975,0.975) 0.975,1.025 0.155,1.025 ccw(c0.155,0.975) 0.105,0.975 0.105,0.155
Mechanical 13:
  circle w0.1: c-0.925,0.925 r0.5
  lines w0.1: -1.825,-1.825 -1.825,1.825 1.825,1.825 1.825,-1.825 -1.825,-1.825
Mechanical 15:
  lines w0.025: -0.175,-1.9 cw(c-0.225,-1.9) -0.225,-1.95 -0.325,-1.95 cw(c-0.325,-1.9) -0.375,-1.9 -0.375,-1.075 ccw(c-0.425,-1.075) -0.425,-1.025 -0.975,-1.025 cw(c-0.975,-0.975) -1.025,-0.975 -1.025,0 -1.025,0.975 cw(c-0.975,0.975) -0.975,1.025 -0.425,1.025 ccw(c-0.425,1.075) -0.375,1.075 -0.375,1.9 cw(c-0.325,1.9) -0.325,1.95 -0.225,1.95 cw(c-0.225,1.9) -0.175,1.9 ; -0.175,-1.9 -0.175,-1.475 ; -0.175,-1.9 -0.175,-1.9 ; -0.175,-1.475 cw(c-0.125,-1.475) -0.125,-1.425 0,-1.425 0.125,-1.425 cw(c0.125,-1.475) 0.175,-1.475 ; -0.175,-1.475 -0.175,-1.475 ; -0.175,1.475 ccw(c-0.125,1.475) -0.125,1.425 0,1.425 0.125,1.425 ccw(c0.125,1.475) 0.175,1.475 ; -0.175,1.475 -0.175,1.9 ; -0.175,1.475 -0.175,1.475 ; -0.175,1.9 -0.175,1.9 ; 0.175,-1.9 ccw(c0.225,-1.9) 0.225,-1.95 0.325,-1.95 ccw(c0.325,-1.9) 0.375,-1.9 0.375,-1.075 cw(c0.425,-1.075) 0.425,-1.025 0.975,-1.025 ccw(c0.975,-0.975) 1.025,-0.975 1.025,0 1.025,0.975 ccw(c0.975,0.975) 0.975,1.025 0.425,1.025 cw(c0.425,1.075) 0.375,1.075 0.375,1.9 ccw(c0.325,1.9) 0.325,1.95 0.225,1.95 ccw(c0.225,1.9) 0.175,1.9 ; 0.175,-1.9 0.175,-1.9 ; 0.175,-1.9 0.175,-1.475 ; 0.175,-1.475 0.175,-1.475 ; 0.175,1.475 0.175,1.475 ; 0.175,1.475 0.175,1.9 ; 0.175,1.9 0.175,1.9
  lines w0.05: -2.375,-2.375 -2.375,2.375 2.375,2.375 2.375,-2.375 -2.375,-2.375
  lines w0.1: -0.5,0 0.5,0 ; 0,-0.5 0,0.5
3D body "QFN50P350X350X90_HS-21N.step": height 0.9, standoff 0, extent -1.875,-1.875 1.875,1.875

## VSON-8-1EP_3x3mm_P0.65mm_EP1.5x1.75mm [mm] "SON, 8-Leads, Body 6.55x3.00mm, Pitch 0.65mm, Thermal Pad 1.75x1.50mm, IPC Medium Density"
height 1
pads (13):
  rect 0.8x0.31 smd: 1(-1.5,0.975) 2(-1.5,0.325) 3(-1.5,-0.325) 4(-1.5,-0.975) 5(1.5,-0.975) 6(1.5,-0.325) 7(1.5,0.325) 8(1.5,0.975)
  rect 0.23x1.5 smd: 9(-0.325,-0.95) 9(-0.325,0.95) 9(0.325,-0.95) 9(0.325,0.95)
  rect 1.5x1.75 smd: 9(0,0)
Top Overlay:
  circle w0.1: c-2.05,1.65 r0.05
  lines w0.2: -1.65,-1.55 -1.65,-1.65 -1.09,-1.65 ; -1.65,1.55 -1.65,1.65 -1.09,1.65 ; 1.09,-1.65 1.65,-1.65 1.65,-1.55 ; 1.09,1.65 1.65,1.65 1.65,1.55
Mechanical 13:
  circle w0.1: c-0.6,0.6 r0.5
  lines w0.1: -1.5,-1.5 1.5,-1.5 1.5,1.5 -1.5,1.5 -1.5,-1.5
Mechanical 15:
  lines w0.05: -2.085,-1.75 2.085,-1.75 2.085,1.75 -2.085,1.75 -2.085,-1.75
  lines w0.1: -0.5,0 0.5,0 ; 0,-0.5 0,0.5
3D body "SON65P300X100_HS-9N.step": height 1, standoff 0, extent -1.6,-1.5 1.6,1.5